# Altium integrated library buzzerGrande.IntLib: 1 symbol
Pins are listed as number, name and electrical type; pins without a type are passive.

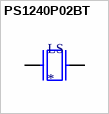
[diagram p0: symbol PS1240P02BT]

## PS1240P02BT
designator LS
Buzzers Transducer, Externally Driven Piezo 3V 4kHz 60dB @ 3V, 10cm Through Hole PC Pins; MP: PS1240P02BT; MF: TDK; Availability: Unavailable; Package: 2020 TDK; Value: *; Price: None; SnapEDA_Link: https://www.snapeda.com/parts/PS1240P02BT/TDK/view-part/53420/?ref=snap
footprint XDCR_PS1240P02BT
pins: 1, 2